# EAGLE library part CON14 (library simple-parts)
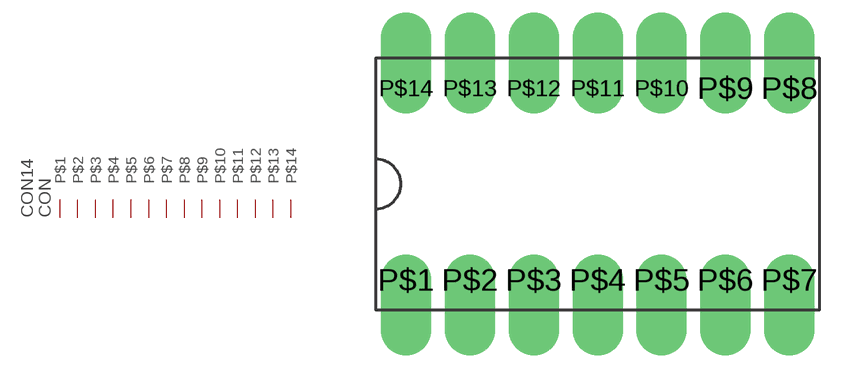
[diagram p6: symbol with the pads of ICMOUNT14; footprint ICMOUNT14]

Designator prefix CON

## CON14ICMOUNT14  [ICMOUNT14]
P$1  P$1
P$2  P$2
P$3  P$3
P$4  P$4
P$5  P$5
P$6  P$6
P$7  P$7
P$8  P$8
P$9  P$9
P$10  P$10
P$11  P$11
P$12  P$12
P$13  P$13
P$14  P$14

## Footprint ICMOUNT14 (pad centres in mm)
drill 0.9 pad 2 offset: P$1 -7.62,-3.81; P$2 -5.08,-3.81; P$3 -2.54,-3.81; P$4 0,-3.81; P$5 2.54,-3.81; P$6 5.08,-3.81; P$7 7.62,-3.81; P$8 7.62,3.81; P$9 5.08,3.81; P$10 2.54,3.81; P$11 0,3.81; P$12 -2.54,3.81; P$13 -5.08,3.81; P$14 -7.62,3.81